# Altium footprint library ECAR_PARTS.PcbLib: 18 footprints (part 2 of 2)
Each footprint in its own frame and in the unit in brackets; x right, y up, seen from the top. Pads: shape width x height; smd on the part's side, far side on the other; paste and mask are expansions set on the pad; w line width, h text height; cw(c..) or ccw(c..) is an arc to the next point about the centre after c.
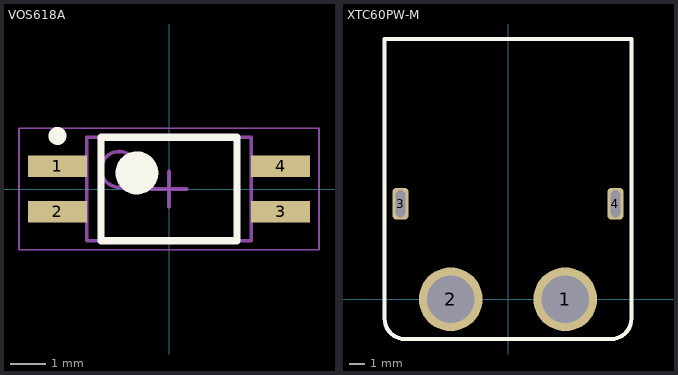
[diagram p1: the footprints below, top view; thin cyan lines are the x and y axes]

## VOS618A [mm] "SOP, 4-Leads, Body 2.60x4.40mm, Pitch 1.27mm, IPC Medium Density"
height 2.3
pads (4):
  rect 1.65x0.6 smd: 1(-3.125,0.635) 2(-3.125,-0.635) 3(3.125,-0.635) 4(3.125,0.635)
Top Overlay:
  circle w0.6: c-0.9,0.45 r0.3
  circle w0.25: c-3.125,1.485 r0.125
  lines w0.2: -1.9,-1.45 1.9,-1.45 1.9,1.45 -1.9,1.45 -1.9,-1.45
Mechanical 13:
  circle w0.1: c-1.4,0.55 r0.5
  lines w0.1: -2.3,-1.45 2.3,-1.45 2.3,1.45 -2.3,1.45 -2.3,-1.45
Mechanical 15:
  lines w0.05: -4.2,-1.7 4.2,-1.7 4.2,1.7 -4.2,1.7 -4.2,-1.7
  lines w0.1: -0.5,0 0.5,0 ; 0,-0.5 0,0.5
3D body "VOS618A.step": height 2.3, standoff 0, extent -3.375,-1.45 3.375,1.45

## XTC60PW-M [mm] "Male right angle xt60"
height 8.5
pads (4):
  round 4 hole 3: 1(3.6,0) 2(-3.6,0)
  rrect50% 1x2 hole 0.6 slot 1.7 at 90 deg: 3(-6.75,6) 4(6.75,6)
Top Overlay:
  lines w0.254: -7.75,-1.23 ccw(c-6.48,-1.23) -6.48,-2.5 -6,-2.5 6,-2.5 6.48,-2.5 ccw(c6.48,-1.23) 7.75,-1.23 7.75,2 7.75,16.35 -7.75,16.35 -7.75,2 -7.75,-1.23
3D body "XT60-PW.stp": height 2, standoff -8.9, extent -7.753,-1.905 7.747,16.295